# Altium schematic symbol library TimeDrive_Lib.SchLib: 7 symbols
Pins are listed as number, name and electrical type; pins without a type are passive.

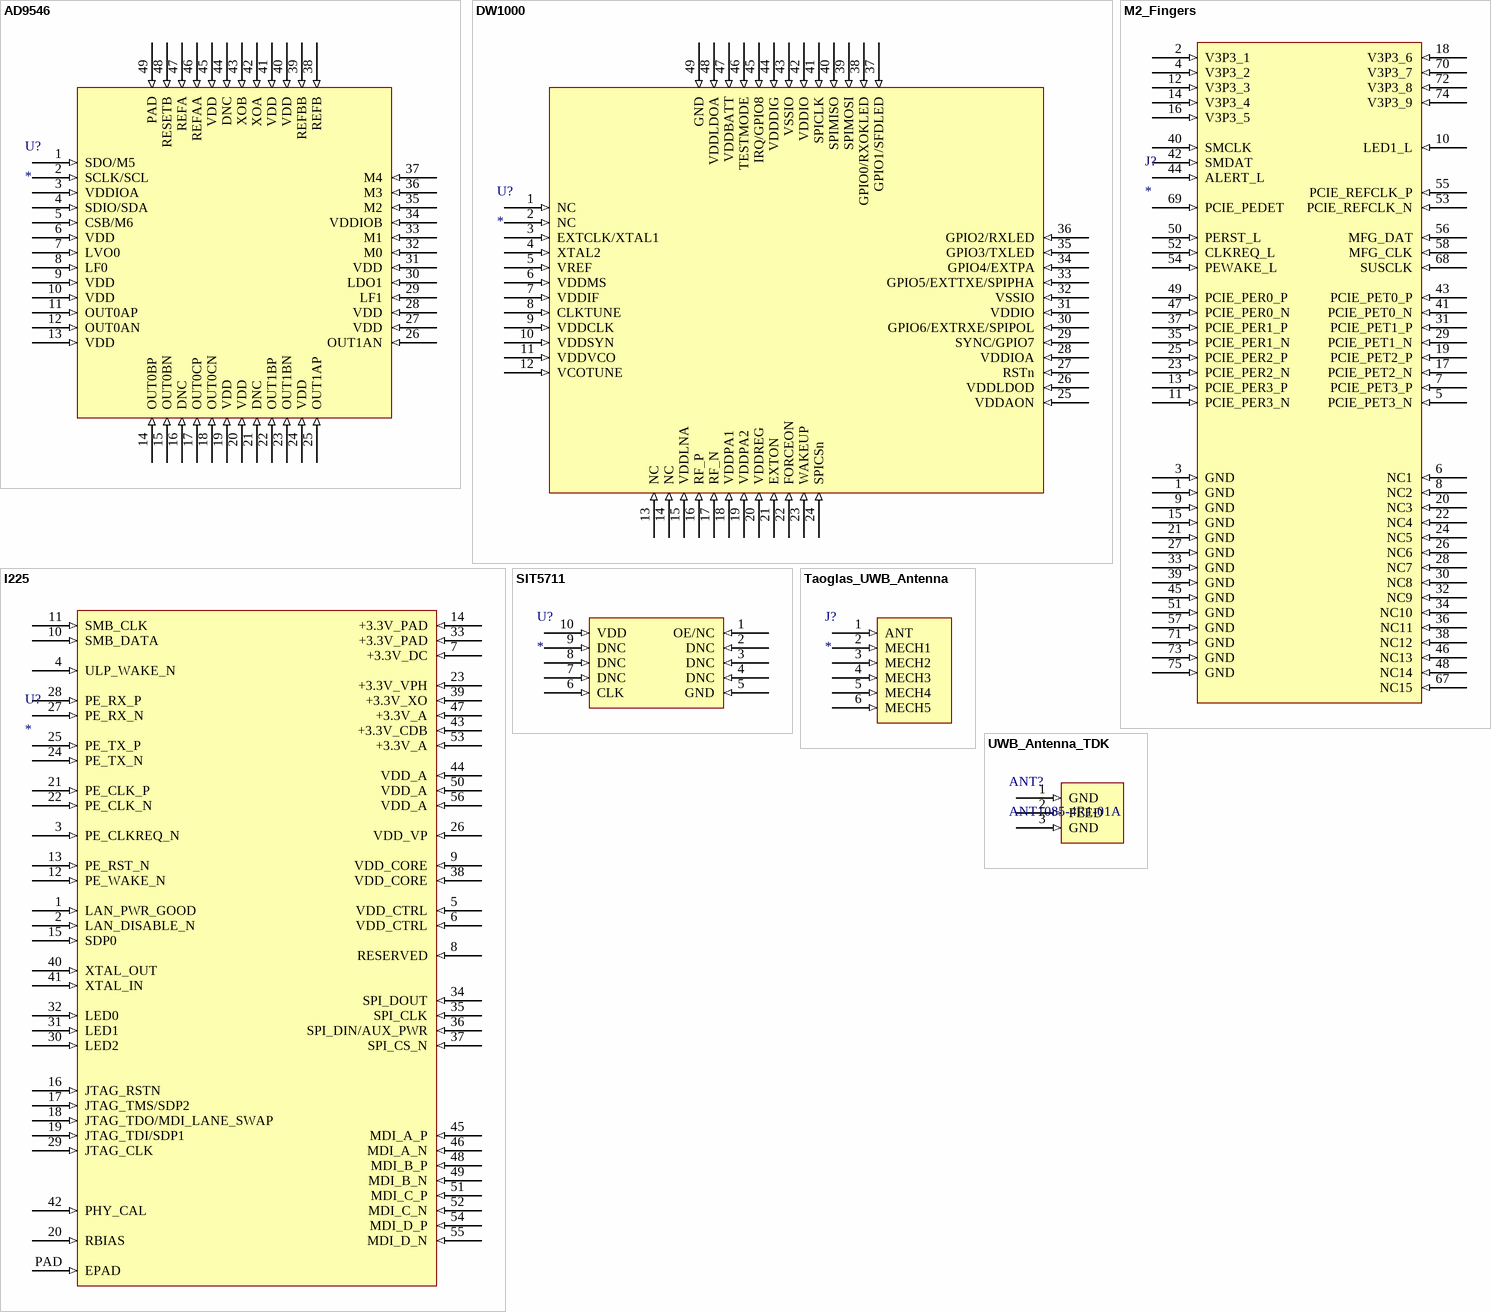
[diagram p0: symbols AD9546 to UWB_Antenna_TDK]

## AD9546
designator U?
footprint AD9546 (QFN, 48-Leads, Body 7.00x7.00mm, Pitch 0.50mm, Thermal Pad 5.60x5.60mm, IPC Medium Density)
pins: 1 SDO/M5 (in), 2 SCLK/SCL (in), 3 VDDIOA (in), 4 SDIO/SDA (in), 5 CSB/M6 (in), 6 VDD (in), 7 LVO0 (in), 8 LF0 (in), 9 VDD (in), 10 VDD (in), 11 OUT0AP (in), 12 OUT0AN (in), 13 VDD (in), 14 OUT0BP (in), 15 OUT0BN (in), 16 DNC (in), 17 OUT0CP (in), 18 OUT0CN (in), 19 VDD (in), 20 VDD (in), 21 DNC (in), 22 OUT1BP (in), 23 OUT1BN (in), 24 VDD (in), 25 OUT1AP (in), 26 OUT1AN (in), 27 VDD (in), 28 VDD (in), 29 LF1 (in), 30 LDO1 (in), 31 VDD (in), 32 M0 (in), 33 M1 (in), 34 VDDIOB (in), 35 M2 (in), 36 M3 (in), 37 M4 (in), 38 REFB (in), 39 REFBB (in), 40 VDD (in), 41 VDD (in), 42 XOA (in), 43 XOB (in), 44 DNC (in), 45 VDD (in), 46 REFAA (in), 47 REFA (in), 48 RESETB (in), 49 PAD (in)

## DW1000
designator U?
footprint QFN40P600X600X90-49N-D
pins: 1 NC (in), 2 NC (in), 3 EXTCLK/XTAL1 (in), 4 XTAL2 (in), 5 VREF (in), 6 VDDMS (in), 7 VDDIF (in), 8 CLKTUNE (in), 9 VDDCLK (in), 10 VDDSYN (in), 11 VDDVCO (in), 12 VCOTUNE (in), 13 NC (in), 14 NC (in), 15 VDDLNA (in), 16 RF_P (in), 17 RF_N (in), 18 VDDPA1 (in), 19 VDDPA2 (in), 20 VDDREG (in), 21 EXTON (in), 22 FORCEON (in), 23 WAKEUP (in), 24 SPICSn (in), 25 VDDAON (in), 26 VDDLDOD (in), 27 RSTn (in), 28 VDDIOA (in), 29 SYNC/GPIO7 (in), 30 GPIO6/EXTRXE/SPIPOL (in), 31 VDDIO (in), 32 VSSIO (in), 33 GPIO5/EXTTXE/SPIPHA (in), 34 GPIO4/EXTPA (in), 35 GPIO3/TXLED (in), 36 GPIO2/RXLED (in), 37 GPIO1/SFDLED (in), 38 GPIO0/RXOKLED (in), 39 SPIMOSI (in), 40 SPIMISO (in), 41 SPICLK (in), 42 VDDIO (in), 43 VSSIO (in), 44 VDDDIG (in), 45 IRQ/GPIO8 (in), 46 TESTMODE (in), 47 VDDBATT (in), 48 VDDLDOA (in), 49 GND (in)

## I225
designator U?
footprint I225 QFN56
pins: 1 LAN_PWR_GOOD (in), 2 LAN_DISABLE_N (in), 3 PE_CLKREQ_N (in), 4 ULP_WAKE_N (in), 5 VDD_CTRL (in), 6 VDD_CTRL (in), 7 +3.3V_DC (in), 8 RESERVED (in), 9 VDD_CORE (in), 10 SMB_DATA (in), 11 SMB_CLK (in), 12 PE_WAKE_N (in), 13 PE_RST_N (in), 14 +3.3V_PAD (in), 15 SDP0 (in), 16 JTAG_RSTN (in), 17 JTAG_TMS/SDP2 (in), 18 JTAG_TDO/MDI_LANE_SWAP (in), 19 JTAG_TDI/SDP1 (in), 20 RBIAS (in), 21 PE_CLK_P (in), 22 PE_CLK_N (in), 23 +3.3V_VPH (in), 24 PE_TX_N (in), 25 PE_TX_P (in), 26 VDD_VP (in), 27 PE_RX_N (in), 28 PE_RX_P (in), 29 JTAG_CLK (in), 30 LED2 (in), 31 LED1 (in), 32 LED0 (in), 33 +3.3V_PAD (in), 34 SPI_DOUT (in), 35 SPI_CLK (in), 36 SPI_DIN/AUX_PWR (in), 37 SPI_CS_N (in), 38 VDD_CORE (in), 39 +3.3V_XO (in), 40 XTAL_OUT (in), 41 XTAL_IN (in), 42 PHY_CAL (in), 43 +3.3V_CDB (in), 44 VDD_A (in), 45 MDI_A_P (in), 46 MDI_A_N (in), 47 +3.3V_A (in), 48 MDI_B_P (in), 49 MDI_B_N (in), 50 VDD_A (in), 51 MDI_C_P (in), 52 MDI_C_N (in), 53 +3.3V_A (in), 54 MDI_D_P (in), 55 MDI_D_N (in), 56 VDD_A (in), PAD EPAD (in)

## M2_Fingers
designator J?
footprint M.2 PCIe fingers
pins: 1 GND (in), 2 V3P3_1 (in), 3 GND (in), 4 V3P3_2 (in), 5 PCIE_PET3_N (in), 6 NC1 (in), 7 PCIE_PET3_P (in), 8 NC2 (in), 9 GND (in), 10 LED1_L (in), 11 PCIE_PER3_N (in), 12 V3P3_3 (in), 13 PCIE_PER3_P (in), 14 V3P3_4 (in), 15 GND (in), 16 V3P3_5 (in), 17 PCIE_PET2_N (in), 18 V3P3_6 (in), 19 PCIE_PET2_P (in), 20 NC3 (in), 21 GND (in), 22 NC4 (in), 23 PCIE_PER2_N (in), 24 NC5 (in), 25 PCIE_PER2_P (in), 26 NC6 (in), 27 GND (in), 28 NC7 (in), 29 PCIE_PET1_N (in), 30 NC8 (in), 31 PCIE_PET1_P (in), 32 NC9 (in), 33 GND (in), 34 NC10 (in), 35 PCIE_PER1_N (in), 36 NC11 (in), 37 PCIE_PER1_P (in), 38 NC12 (in), 39 GND (in), 40 SMCLK (in), 41 PCIE_PET0_N (in), 42 SMDAT (in), 43 PCIE_PET0_P (in), 44 ALERT_L (in), 45 GND (in), 46 NC13 (in), 47 PCIE_PER0_N (in), 48 NC14 (in), 49 PCIE_PER0_P (in), 50 PERST_L (in), 51 GND (in), 52 CLKREQ_L (in), 53 PCIE_REFCLK_N (in), 54 PEWAKE_L (in), 55 PCIE_REFCLK_P (in), 56 MFG_DAT (in), 57 GND (in), 58 MFG_CLK (in), 67 NC15 (in), 68 SUSCLK (in), 69 PCIE_PEDET (in), 70 V3P3_7 (in), 71 GND (in), 72 V3P3_8 (in), 73 GND (in), 74 V3P3_9 (in), 75 GND (in)

## SIT5711
designator U?
footprint SIT5711
pins: 1 OE/NC (in), 2 DNC (in), 3 DNC (in), 4 DNC (in), 5 GND (in), 6 CLK (in), 7 DNC (in), 8 DNC (in), 9 DNC (in), 10 VDD (in)

## Taoglas_UWB_Antenna
designator J?
footprint UWC.20 Antenna (SON, 6-Leads, Body 12.00x12.00mm, Pitch 5.00mm, IPC Medium Density)
pins: 1 ANT (in), 2 MECH1 (in), 3 MECH2 (in), 4 MECH3 (in), 5 MECH4 (in), 6 MECH5 (in)

## UWB_Antenna_TDK
designator ANT?, comment ANT1085-4R1-01A
pins: 1 GND (in), 2 FEED (in), 3 GND (in)